# Altium footprint library dip_switch_3p.PcbLib: 1 footprints
Each footprint in its own frame and in the unit in brackets; x right, y up, seen from the top. Pads: shape width x height; smd on the part's side, far side on the other; paste and mask are expansions set on the pad; w line width, h text height; cw(c..) or ccw(c..) is an arc to the next point about the centre after c.
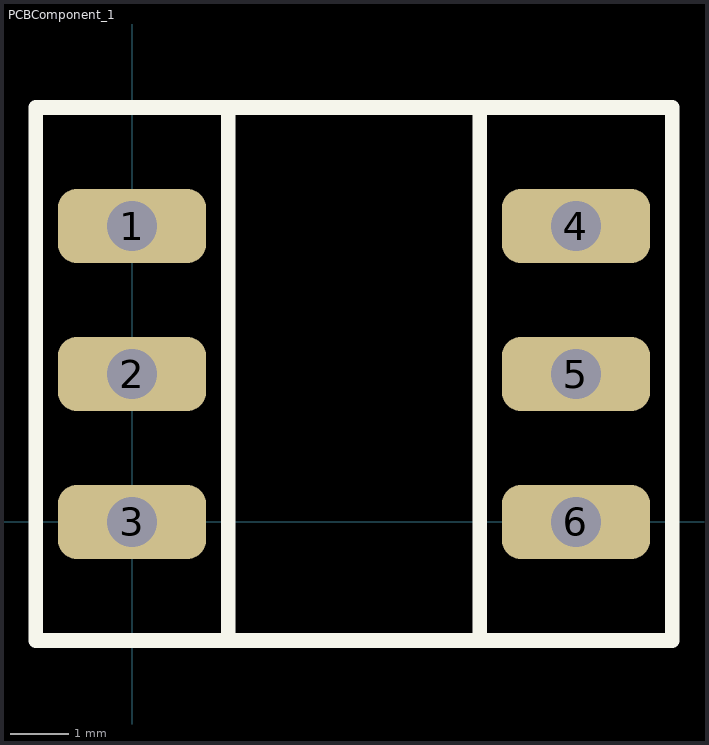
[diagram p0: the footprint, top view; thin cyan lines are the x and y axes]

## PCBComponent_1 [mm]
pads (6):
  rrect50% 2.54x1.27 hole 0.86: 1(0,5.08) 2(0,2.54) 3(0,0) 4(7.62,5.08) 5(7.62,2.54) 6(7.62,0)
Top Overlay:
  lines w0.254: 1.651,-2.032 1.651,7.112 ; 5.969,-2.032 5.969,7.112 ; -1.651,-2.032 -1.651,7.112 9.271,7.112 9.271,-2.032 -1.651,-2.032
3D body "dipswitch3p.stp": height 7.12, standoff -3.17, extent -1.14,-2.05 8.76,7.13